# Altium schematic symbol library Capacitor.SchLib: 17 symbols
Pins are listed as number, name and electrical type; pins without a type are passive.

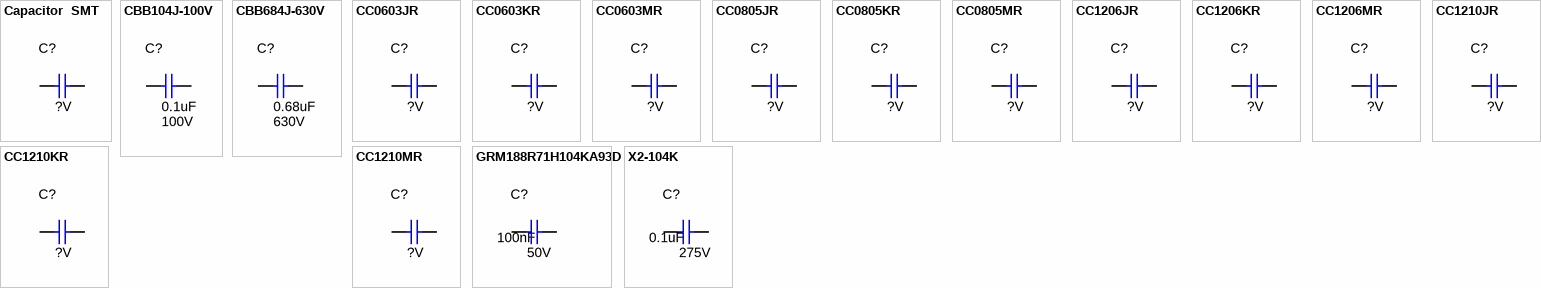
[diagram p0: symbols Capacitor  SMT to X2-104K]

## Capacitor  SMT
designator C?  Max voltage: ?V
Capacitor 10 %; Manufacturer: MuRata; Tolerance_%: 10; Series: Capacitor; Mount type: SMT
footprint 0603C C1
footprint 0603C C2
footprint 0805C
footprint 1206C
footprint 1210C
footprint 2220C
pins: 1, 2

## CBB104J-100V
designator C?, comment Max voltage: 100V  (hidden comment: 0.1uF)
Capacitor CBB; Tolerance_%: 10; Series: Capacitor; Mount type: AI; Value: 0.1uF
footprint CBB 5MM
pins: 1, 2

## CBB684J-630V
designator C?, comment Max voltage: 630V  (hidden comment: 0.68uF)
Capacitor CBB; Tolerance_%: 10; Series: Capacitor; Size: 10*20CM; Mount type: AI; Value: 0.68uF
footprint CBB 20CM
pins: 1, 2

## CC0603JR
designator C?  Max voltage: ?V
Capacitor 5%; Manufacturer: YAGEO; Series: Capacitor; Tolerance_%: 5%; Size: 0603; Mount type: SMT
footprint 0603C C1
footprint 0603C C2
pins: 1, 2

## CC0603KR
designator C?  Max voltage: ?V
Capacitor 10%; Manufacturer: YAGEO; Series: Capacitor; Tolerance_%: 10%; Size: 0603; Mount type: SMT
footprint 0603C C1
footprint 0603C C2
pins: 1, 2

## CC0603MR
designator C?  Max voltage: ?V
Capacitor 20%; Manufacturer: YAGEO; Series: Capacitor; Tolerance_%: 20%; Size: 0603; Mount type: SMT
footprint 0603C C1
footprint 0603C C2
pins: 1, 2

## CC0805JR
designator C?  Max voltage: ?V
Capacitor 5%; Manufacturer: YAGEO; Series: Capacitor; Tolerance_%: 5%; Size: 0805; Mount type: SMT
footprint 0805C C1
footprint 0805C C2
pins: 1, 2

## CC0805KR
designator C?  Max voltage: ?V
Capacitor 10%; Manufacturer: YAGEO; Series: Capacitor; Tolerance_%: 10%; Size: 0805; Mount type: SMT
footprint 0805C C1
footprint 0805C C2
pins: 1, 2

## CC0805MR
designator C?  Max voltage: ?V
Capacitor 20%; Manufacturer: YAGEO; Series: Capacitor; Tolerance_%: 20%; Size: 0805; Mount type: SMT
footprint 0805C C1
footprint 0805C C2
pins: 1, 2

## CC1206JR
designator C?  Max voltage: ?V
Capacitor 5%; Manufacturer: YAGEO; Series: Capacitor; Tolerance_%: 5%; Size: 1206; Mount type: SMT
footprint 1206C C1
footprint 1206C C2
pins: 1, 2

## CC1206KR
designator C?  Max voltage: ?V
Capacitor 10%; Manufacturer: YAGEO; Series: Capacitor; Tolerance_%: 10%; Size: 1206; Mount type: SMT
footprint 1206C C1
footprint 1206C C2
pins: 1, 2

## CC1206MR
designator C?  Max voltage: ?V
Capacitor 20%; Manufacturer: YAGEO; Series: Capacitor; Tolerance_%: 20%; Size: 1206; Mount type: SMT
footprint 1206C C1
footprint 1206C C2
pins: 1, 2

## CC1210JR
designator C?  Max voltage: ?V
Capacitor 5%; Manufacturer: YAGEO; Series: Capacitor; Tolerance_%: 5%; Size: 1210; Mount type: SMT
footprint 1210C C1
footprint 1210C C2
pins: 1, 2

## CC1210KR
designator C?  Max voltage: ?V
Capacitor 10%; Manufacturer: YAGEO; Series: Capacitor; Tolerance_%: 10%; Size: 1210; Mount type: SMT
footprint 1210C C1
footprint 1210C C2
pins: 1, 2

## CC1210MR
designator C?  Max voltage: ?V
Capacitor 20%; Manufacturer: YAGEO; Series: Capacitor; Tolerance_%: 20%; Size: 1210; Mount type: SMT
footprint 1210C C1
footprint 1210C C2
pins: 1, 2

## GRM188R71H104KA93D
designator C?, comment Max voltage: 50V  (hidden comment: 100nF)
Capacitor 10%; Global part number: GRM188R71H104KA93D; Manufacturer: muRata; Series: Capacitor; Tolerance_%: 10%; Size: 0603; Mount type: SMT; Value: 100nF
footprint 0603C C1
footprint 0603C C2
pins: 1, 2

## X2-104K
designator C?, comment Max voltage: 275V  (hidden comment: 0.1uF)
Capacitor X2; Tolerance_%: 10; Series: Capacitor; Size: 6*13; Mount type: AI; Value: 0.1uF
footprint X2-10MM(6*13)
pins: 1, 2